# Altium schematic symbol library CAS25-NP.SchLib: 2 symbols
Pins are listed as number, name and electrical type; pins without a type are passive.

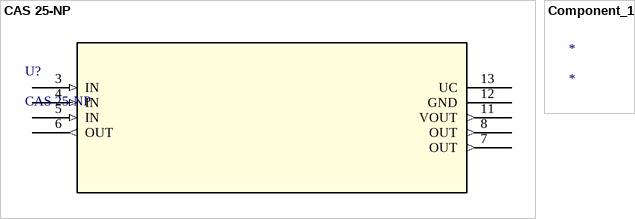
[diagram p0: symbols CAS 25-NP to Component_1]

## CAS 25-NP
designator U?
No Description Available; Mfr_Name: LEM; Copyright: Copyright (C) 2022 Ultra Librarian. All rights reserved.; Manufacturer_Part_Number: CAS 25-NP; Digi-Key_Part_Number_1: 398-1089-5-ND; RefDes: RefDes; Type: DEV
footprint CAS 25-NP/SP2_LEM
pins: 3 IN (in), 4 IN (in), 5 IN (in), 6 OUT (out), 7 OUT (out), 8 OUT (out), 11 VOUT (out), 12 GND, 13 UC (power)

## Component_1
designator *